# Altium footprint library Discrete.PcbLib: 39 footprints (part 1 of 3)
Each footprint in its own frame and in the unit in brackets; x right, y up, seen from the top. Pads: shape width x height; smd on the part's side, far side on the other; paste and mask are expansions set on the pad; w line width, h text height; cw(c..) or ccw(c..) is an arc to the next point about the centre after c.
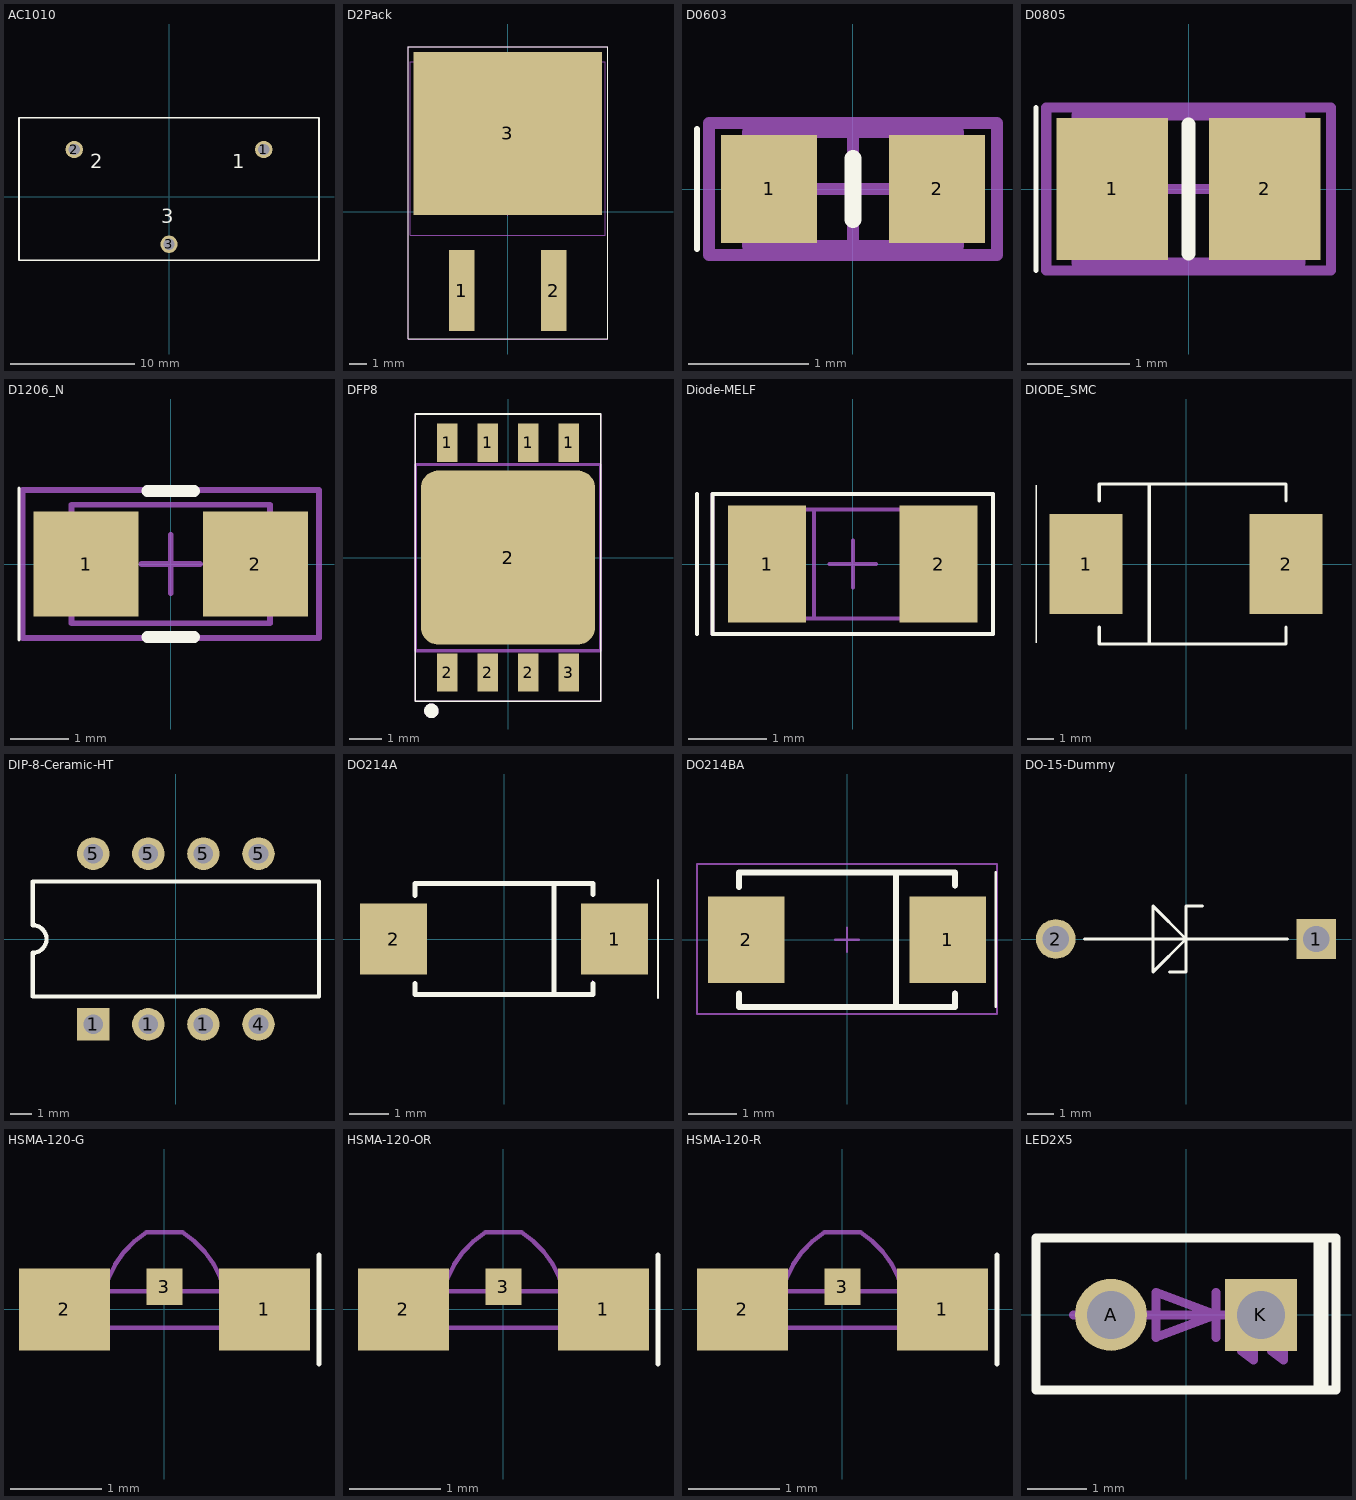
[diagram p0: the footprints below, top view; thin cyan lines are the x and y axes]

## AC1010 [mm] "AC1010"
pads (3):
  round 1.4 hole 0.914: 1(7.62,3.81) 2(-7.62,3.81) 3(0,-3.81)
Top Overlay:
  lines w0.127: -12.065,-5.08 -12.065,6.35 12.065,6.35 12.065,-5.08 -12.065,-5.08
  text "1" at 5.08,1.905 h1.97
  text "2" at -6.35,1.905 h1.97
  text "3" at -0.635,-2.54 h1.97
3D body: height 12, standoff 0.2, extent -11.9,-4.9 12.005,6.1
3D body: height 24.18, standoff 0.22, extent -11.9,-4.9 12.005,6.1

## D2Pack [mm]
pads (3):
  rect 1.5x4.7 smd: 1(-2.675,-4.575) 2(2.675,-4.575)
  rect 11x9.5 smd: 3(0,4.575)
Top Overlay:
  lines w0.05: -5.8,-7.4 5.825,-7.4 5.825,9.625 -5.8,9.625 -5.8,-7.4
Mechanical 1:
  lines w0.05: -5.675,-1.35 5.675,-1.35 5.675,8.75 -5.675,8.75 -5.675,-1.35
Mechanical 15:
  lines w0.05: -0.225,0 0.225,0 ; 0,-0.225 0,0.225 ; -5.8,-7.4 -5.8,9.625 5.825,9.625 5.825,-7.4 -5.8,-7.4
3D body "D2Pak (TO-263AB).STEP": height 4.9, standoff 0, extent -5.25,-6.3 5.25,9.05

## D0603 [mm] "Chip Diode, 0603"
height 1.3
pads (2):
  rect 0.8x0.9 smd: 1(-0.7,0) 2(0.7,0)
Top Overlay:
  lines w0.05: -1.3,-0.5 -1.3,0.5
  lines w0.14: 0,-0.254 0,0.254
Mechanical 13:
  lines w0.1: -0.875,-0.475 -0.875,0.475 0.875,0.475 0.875,-0.475 -0.875,-0.475
Mechanical 15:
  lines w0.1: -0.475,0 0.475,0 ; 0,-0.475 0,0.475 ; -1.2,-0.55 -1.2,0.55 1.2,0.55 1.2,-0.55 -1.2,-0.55
3D body: height 0.6, standoff 0, extent -1.2,-0.55 1.2,0.55

## D0805 [mm] "Chip Diode, Body 2.0x1.3mm, IPC High Density"
height 1.4
pads (2):
  rect 1.1x1.4 smd: 1(-0.75,0) 2(0.75,0)
Top Overlay:
  lines w0.05: -1.5,-0.8 -1.5,0.8
  lines w0.14: 0,-0.635 0,0.635
Mechanical 13:
  lines w0.1: -1.1,-0.725 1.1,-0.725 1.1,0.725 -1.1,0.725 -1.1,-0.725
Mechanical 15:
  lines w0.1: -0.5,0 0.5,0 ; 0,-0.5 0,0.5 ; -1.4,-0.8 1.4,-0.8 1.4,0.8 -1.4,0.8 -1.4,-0.8
3D body: height 1.4, standoff 0, extent -1.4,-0.8 1.4,0.8

## D1206_N [mm] "Chip LED Body 3.2x2.5mm"
height 1.5
pads (2):
  rect 1.8x1.8 smd: 1(-1.45,0) 2(1.45,0)
Top Overlay:
  lines w0.05: -2.6,-1.3 -2.6,1.3
  lines w0.2: -0.4,-1.25 0.4,-1.25 ; -0.4,1.25 0.4,1.25
Mechanical 13:
  lines w0.1: -1.7,-1.016 -1.7,1.016 1.7,1.016 1.7,-1.016 -1.7,-1.016
Mechanical 15:
  lines w0.1: -0.5,0 0.5,0 ; 0,-0.5 0,0.5 ; -2.54,-1.27 -2.54,1.27 2.54,1.27 2.54,-1.27 -2.54,-1.27
3D body "WL-SMCW_1206_LED.stp": height 0.73, standoff 0.05, extent -1.6,-0.8 1.6,0.8

## DFP8 [mm] "DFP8"
height 1.1
pads (9):
  rect 0.65x1.2 smd: 1(-1.905,3.6) 1(-0.635,3.6) 1(0.635,3.6) 1(1.905,3.6) 2(-1.905,-3.6) 2(-0.635,-3.6) 2(0.635,-3.6) 3(1.905,-3.6)
  rrect20% 5.46x5.46 smd: 2(0,0)
Top Overlay:
  circle w0.254: c-2.4,-4.8 r0.1
  lines w0.05: -2.9,-4.5 2.9,-4.5 2.9,4.5 -2.9,4.5 -2.9,-4.5
Mechanical 13:
  lines w0.1: -2.9,-2.92 -2.9,2.92 2.9,2.92 2.9,-2.92 -2.9,-2.92
Mechanical 15:
  circle w0.254: c-2.4,-4.8 r0.1
  lines w0.05: -2.9,-4.5 2.9,-4.5 2.9,4.5 -2.9,4.5 -2.9,-4.5
  lines w0.1: -0.475,0 0.525,0 ; 0,-0.5 0,0.5
3D body: height 1, standoff 0.1, extent -2.9,-3 2.9,3

## Diode-MELF [mm] "Diode, MELF"
height 1.4
pads (2):
  rect 1x1.5 smd: 1(-1.1,0) 2(1.1,0)
Top Overlay:
  lines w0.05: -2,-0.9 -2,0.9 ; -1.8,-0.9 -1.8,0.9 1.8,0.9 1.8,-0.9 -1.8,-0.9
Mechanical 1:
  lines w0.05: -1.8,-0.9 1.8,-0.9 1.8,0.9 -1.8,0.9 -1.8,-0.9
Mechanical 15:
  lines w0.05: -0.5,-0.7 -0.5,0.7 ; -0.3,0 0.3,0 ; 0,-0.3 0,0.3 ; -1,-0.7 1,-0.7 1,0.7 -1,0.7 -1,-0.7
3D body: height 1.49, standoff 0.1, extent -0.5,-0.699 0.8,0.699
3D body: height 1.49, standoff 0.1, extent 0.8,-0.699 1,0.699
3D body: height 1.49, standoff 0.1, extent -1,-0.699 -0.8,0.699
3D body: height 1.49, standoff 0.1, extent -0.8,-0.699 -0.5,0.699

## DIODE_SMC [mil] "Diode; 2 Leads"
pads (2):
  rect 110x150 smd: 1(-150,0) 2(150,0)
Top Overlay:
  lines w1.97: -224.41,-118.11 -224.41,118.11
  lines w5: -130,-95 -130,-120 150,-120 150,-95 ; -130,95 -130,120 150,120 150,95 ; -55,-120 -55,120
Mechanical 1:
  lines w1: -130,-120 150,-120 ; -130,120 150,120

## DIP-8-Ceramic-HT [mm] "DIP; 8 Leads; Row Spacing 7.62 mm; Pitch 2.54 mm"
height 5.08
pads (8):
  rect 1.5x1.5 hole 0.9: 1(-3.81,-3.935)
  round 1.5 hole 0.9: 1(-1.27,-3.935) 1(1.27,-3.935) 4(3.81,-3.935) 5(-3.81,3.935) 5(-1.27,3.935) 5(1.27,3.935) 5(3.81,3.935)
Top Overlay:
  lines w0.2: -6.6,-2.65 6.6,-2.65 6.6,2.65 -6.6,2.65 -6.6,0.635 cw(c-6.6,0) -6.6,-0.635 -6.6,-2.65
3D body "dip08.stp": height 4.4, standoff -2.38, extent -5.08,-4.03 5.08,4.23

## DO214A [mm] "Diode; 2 Leads"
height 2.3
pads (2):
  rect 1.7x1.8 smd: 1(2.8,0) 2(-2.8,0)
Top Overlay:
  lines w0.05: 3.9,-1.5 3.9,1.5
  lines w0.127: -2.25,-1.125 -2.25,-1.4 2.25,-1.4 2.25,-1.125 ; -2.25,1.1 -2.25,1.4 2.25,1.4 2.25,1.125 ; 1.27,-1.397 1.27,1.397
Mechanical 1:
  lines w0.025: -2.25,-1.075 -2.25,-1.4 2.25,-1.4 2.25,-1.05 ; -2.25,1.05 -2.25,1.4 2.25,1.4 2.25,1.075
3D body: height 2.3, standoff 0, extent -2.25,-1.4 1.27,1.4
3D body: height 2.3, standoff 0, extent 1.27,-1.4 2.25,1.4

## DO214BA [mm] "Diode; 2 Leads"
height 2.3
pads (2):
  rect 1.6x1.8 smd: 1(2.1,0) 2(-2.1,0)
Top Overlay:
  lines w0.05: 3.1,-1.4 3.1,1.4
  lines w0.127: -2.25,-1.125 -2.25,-1.4 2.25,-1.4 2.25,-1.125 ; -2.25,1.1 -2.25,1.4 2.25,1.4 2.25,1.125 ; 1.02,-1.372 1.02,1.35
Mechanical 1:
  lines w0.025: -2.25,-1.075 -2.25,-1.4 2.25,-1.4 2.25,-1.05 ; -2.25,1.05 -2.25,1.4 2.25,1.4 2.25,1.075
Mechanical 15:
  lines w0.05: -0.25,0 0.25,0 ; 0,-0.25 0,0.25 ; -3.125,-1.55 3.125,-1.55 3.125,1.575 -3.125,1.575 -3.125,-1.55
3D body: height 2.3, standoff 0, extent -2.25,-1.4 1.27,1.4
3D body: height 2.3, standoff 0, extent 1.27,-1.4 2.25,1.4

## DO-15-Dummy [mil] "DO-15-Dummy"
pads (2):
  rect 60x60 hole 40: 1(196.85,0)
  round 60 hole 40: 2(-196.85,0)
Top Overlay:
  lines w5: -153.54,0 0,0 ; -25,-50 0,-50 0,0 ; 25,50 0,50 0,0 ; 153.54,0 0,0 ; 0,0 -50,-50 -50,50 0,0
3D body: height 137.8, standoff 19.69, extent -152.36,-59.16 107.48,58.88
3D body: height 137.8, standoff 19.69, extent 106.3,-59.06 145.67,59.02

## HSMA-120-G [mm] "GREEN"
height 0.4
pads (3):
  rect 1x0.9 smd: 1(1.1,0) 2(-1.1,0)
  rect 0.4x0.4 smd: 3(0,0.25)
Top Overlay:
  lines w0.05: 1.7,-0.6 1.7,0.6
Mechanical 1:
  lines w0.05: -0.664,0.2 -0.8,0.2 -0.8,-0.2 0.8,-0.2 0.8,0.2 0.662,0.2 -0.662,0.2 cw(c0.375,-0.05) -0.199,0.849 0.2,0.849 cw(c-0.375,-0.05) 0.662,0.202
3D body: height 0.6, standoff 0, extent -0.662,0.2 0.662,0.849
3D body: height 0.6, standoff 0, extent -0.8,-0.2 0.8,0.2

## HSMA-120-OR [mm] "OR"
height 0.4
pads (3):
  rect 1x0.9 smd: 1(1.1,0) 2(-1.1,0)
  rect 0.4x0.4 smd: 3(0,0.25)
Top Overlay:
  lines w0.05: 1.7,-0.6 1.7,0.6
Mechanical 1:
  lines w0.05: -0.664,0.2 -0.8,0.2 -0.8,-0.2 0.8,-0.2 0.8,0.2 0.662,0.2 -0.662,0.2 cw(c0.375,-0.05) -0.199,0.849 0.2,0.849 cw(c-0.375,-0.05) 0.662,0.202
3D body: height 0.6, standoff 0, extent -0.662,0.2 0.662,0.849
3D body: height 0.6, standoff 0, extent -0.8,-0.2 0.8,0.2

## HSMA-120-R [mm] "RED"
height 0.4
pads (3):
  rect 1x0.9 smd: 1(1.1,0) 2(-1.1,0)
  rect 0.4x0.4 smd: 3(0,0.25)
Top Overlay:
  lines w0.05: 1.7,-0.6 1.7,0.6
Mechanical 1:
  lines w0.05: -0.664,0.2 -0.8,0.2 -0.8,-0.2 0.8,-0.2 0.8,0.2 0.662,0.2 -0.662,0.2 cw(c0.375,-0.05) -0.199,0.849 0.2,0.849 cw(c-0.375,-0.05) 0.662,0.202
3D body: height 0.6, standoff 0, extent -0.8,-0.2 0.8,0.2
3D body: height 0.6, standoff 0, extent -0.662,0.2 0.662,0.849

## LED2X5 [mil] "LED2X5"
pads (2):
  round 48 hole 32: A(-50,0)
  rect 48x48 hole 32: K(50,0)
Top Overlay:
  rectangle: 85,-50 95,50
  lines w6: -100,-50 100,-50 100,51.18 -100,51.18 -100,-50
Mechanical 16:
  lines w6: -75,0 20,0 ; 20,-15 20,0 ; 20,15 20,0 ; 35,-10 45,-30 ; 55,-10 65,-30 ; 70,0 20,0 ; 20,0 -20,15 -20,-15 20,0 ; 45,-30 45,-20 37,-24 45,-30 ; 65,-30 65,-20 57,-24 65,-30
3D body "WL-TMRC_5mm_TMRC.stp": height 421.26, standoff -960.63, extent -114.17,-114.17 98.43,117.92